# EAGLE library part DPCO-107-2-C (library relay-pickering)
DPCO Relay TTL SIL Pickering 107-2-C series TTL drive (8 of 9 pin SIL)
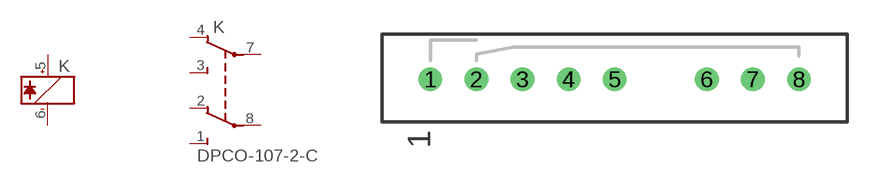
[diagram p4: symbol with the pads of 1072C; footprint 1072C]

Designator prefix K; gates G$1=RELAY-COIL G$2=DPDT-CONTACT

## DPCO-107-2-C  [1072C]
1  G$2:NO1  pas
2  G$2:NC1  pas
3  G$2:NO  pas
4  G$2:NC  pas
5  G$1:+  pas
6  G$1:-  pas
7  G$2:C  pas
8  G$2:C1  pas

## Footprint 1072C (pad centres in mm)
DPCO Relay TTL SIL Pickering 107-2-C series TTL drive (8 of 9 pin SIL)
drill 0.8 pad 1.3 round: 1 -10.16,0; 2 -7.62,0; 3 -5.08,0; 4 -2.54,0; 5 0,0; 6 5.08,0; 7 7.62,0; 8 10.16,0